# Altium schematic symbol library CH341A.SchLib: 1 symbol
Pins are listed as number, name and electrical type; pins without a type are passive.

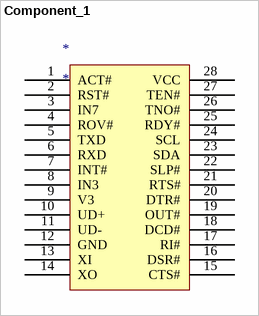
[diagram p0: symbol Component_1]

## Component_1
designator *
pins: 1 ACT#, 2 RST#, 3 IN7, 4 ROV#, 5 TXD, 6 RXD, 7 INT#, 8 IN3, 9 V3, 10 UD+, 11 UD-, 12 GND, 13 XI, 14 XO, 15 CTS#, 16 DSR#, 17 RI#, 18 DCD#, 19 OUT#, 20 DTR#, 21 RTS#, 22 SLP#, 23 SDA, 24 SCL, 25 RDY#, 26 TNO#, 27 TEN#, 28 VCC